# Altium footprint library 4.32-CZ-5.08mm插座.PcbLib: 24 footprints (part 2 of 2)
Each footprint in its own frame and in the unit in brackets; x right, y up, seen from the top. Pads: shape width x height; smd on the part's side, far side on the other; paste and mask are expansions set on the pad; w line width, h text height; cw(c..) or ccw(c..) is an arc to the next point about the centre after c.
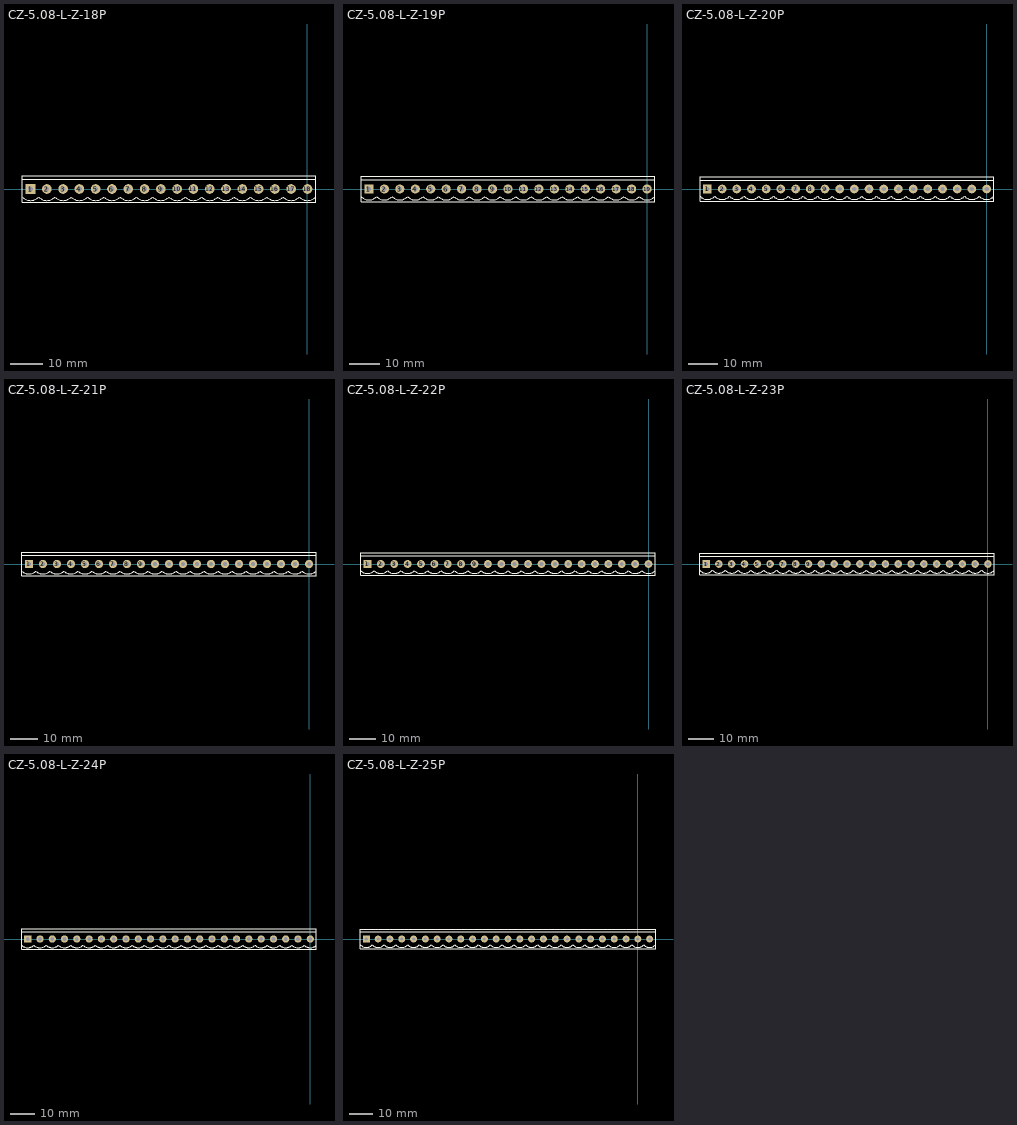
[diagram p1: the footprints below, top view; thin cyan lines are the x and y axes]

## CZ-5.08-L-Z-18P [mm] "[ PCBѧϰȺ514746572 ]"
pads (18):
  rect 3x3 hole 1.5: 1(-86.36,0)
  round 3 hole 1.5: 2(-81.28,0) 3(-76.2,0) 4(-71.12,0) 5(-66.04,0) 6(-60.96,0) 7(-55.88,0) 8(-50.8,0) 9(-45.72,0) 10(-40.64,0) 11(-35.56,0) 12(-30.48,0) 13(-25.4,0) 14(-20.32,0) 15(-15.24,0) 16(-10.16,0) 17(-5.08,0) 18(0,0)
Top Overlay:
  lines w0.203: -88.9,-4.2 2.54,-4.2 ; -88.9,4.2 2.54,4.2
  lines w0.254: -88.9,-4.2 -88.9,4.2 ; -88.9,-2.54 ccw(c-86.36,0) -83.82,-2.54 ccw(c-81.28,0) -78.74,-2.54 ccw(c-76.2,0) -73.66,-2.54 ccw(c-71.12,0) -68.58,-2.54 ccw(c-66.04,0) -63.5,-2.54 ccw(c-60.96,0) -58.42,-2.54 ccw(c-55.88,0) -53.34,-2.54 ccw(c-50.8,0) -48.26,-2.54 ccw(c-45.72,0) -43.18,-2.54 ccw(c-40.64,0) -38.1,-2.54 ccw(c-35.56,0) -33.02,-2.54 ccw(c-30.48,0) -27.94,-2.54 ccw(c-25.4,0) -22.86,-2.54 ccw(c-20.32,0) -17.78,-2.54 ccw(c-15.24,0) -12.7,-2.54 ccw(c-10.16,0) -7.62,-2.54 ccw(c-5.08,0) -2.54,-2.54 ccw(c0,0) 2.54,-2.54 ; -88.9,3.1 2.54,3.1 ; 2.54,-4.2 2.54,4.2
3D body "5.08立式直插-18P.STEP": height 3.53, standoff -10.67, extent -88.94,-4.2 2.5,4.2

## CZ-5.08-L-Z-19P [mm] "[ PCBѧϰȺ514746572 ]"
pads (19):
  rect 3x3 hole 1.5: 1(-91.44,0)
  round 3 hole 1.5: 2(-86.36,0) 3(-81.28,0) 4(-76.2,0) 5(-71.12,0) 6(-66.04,0) 7(-60.96,0) 8(-55.88,0) 9(-50.8,0) 10(-45.72,0) 11(-40.64,0) 12(-35.56,0) 13(-30.48,0) 14(-25.4,0) 15(-20.32,0) 16(-15.24,0) 17(-10.16,0) 18(-5.08,0) 19(0,0)
Top Overlay:
  lines w0.203: -93.98,-4.2 2.54,-4.2 ; -93.98,4.2 2.54,4.2
  lines w0.254: -93.98,-4.2 -93.98,4.2 ; -93.98,-2.54 ccw(c-91.44,0) -88.9,-2.54 ccw(c-86.36,0) -83.82,-2.54 ccw(c-81.28,0) -78.74,-2.54 ccw(c-76.2,0) -73.66,-2.54 ccw(c-71.12,0) -68.58,-2.54 ccw(c-66.04,0) -63.5,-2.54 ccw(c-60.96,0) -58.42,-2.54 ccw(c-55.88,0) -53.34,-2.54 ccw(c-50.8,0) -48.26,-2.54 ccw(c-45.72,0) -43.18,-2.54 ccw(c-40.64,0) -38.1,-2.54 ccw(c-35.56,0) -33.02,-2.54 ccw(c-30.48,0) -27.94,-2.54 ccw(c-25.4,0) -22.86,-2.54 ccw(c-20.32,0) -17.78,-2.54 ccw(c-15.24,0) -12.7,-2.54 ccw(c-10.16,0) -7.62,-2.54 ccw(c-5.08,0) -2.54,-2.54 ccw(c0,0) 2.54,-2.54 ; -93.98,3.1 2.54,3.1 ; 2.54,-4.2 2.54,4.2
3D body "5.08立式直插-19P.STEP": height 3.53, standoff -10.67, extent -94.01,-4.25 2.51,4.15

## CZ-5.08-L-Z-20P [mm] "[ PCBѧϰȺ514746572 ]"
pads (20):
  rect 3x3 hole 1.5: 1(-96.52,0)
  round 3 hole 1.5: 2(-91.44,0) 3(-86.36,0) 4(-81.28,0) 5(-76.2,0) 6(-71.12,0) 7(-66.04,0) 8(-60.96,0) 9(-55.88,0) 10(-50.8,0) 11(-45.72,0) 12(-40.64,0) 13(-35.56,0) 14(-30.48,0) 15(-25.4,0) 16(-20.32,0) 17(-15.24,0) 18(-10.16,0) 19(-5.08,0) 20(0,0)
Top Overlay:
  lines w0.203: -99.06,-4.2 2.54,-4.2 ; -99.06,4.2 2.54,4.2
  lines w0.254: -99.06,-4.2 -99.06,4.2 ; -99.06,-2.54 ccw(c-96.52,0) -93.98,-2.54 ccw(c-91.44,0) -88.9,-2.54 ccw(c-86.36,0) -83.82,-2.54 ccw(c-81.28,0) -78.74,-2.54 ccw(c-76.2,0) -73.66,-2.54 ccw(c-71.12,0) -68.58,-2.54 ccw(c-66.04,0) -63.5,-2.54 ccw(c-60.96,0) -58.42,-2.54 ccw(c-55.88,0) -53.34,-2.54 ccw(c-50.8,0) -48.26,-2.54 ccw(c-45.72,0) -43.18,-2.54 ccw(c-40.64,0) -38.1,-2.54 ccw(c-35.56,0) -33.02,-2.54 ccw(c-30.48,0) -27.94,-2.54 ccw(c-25.4,0) -22.86,-2.54 ccw(c-20.32,0) -17.78,-2.54 ccw(c-15.24,0) -12.7,-2.54 ccw(c-10.16,0) -7.62,-2.54 ccw(c-5.08,0) -2.54,-2.54 ccw(c0,0) 2.54,-2.54 ; -99.06,3.1 2.54,3.1 ; 2.54,-4.2 2.54,4.2
3D body "5.08立式直插-20P.STEP": height 3.53, standoff -10.67, extent -99.1,-4.189 2.5,4.21

## CZ-5.08-L-Z-21P [mm] "[ PCBѧϰȺ514746572 ]"
pads (21):
  rect 3x3 hole 1.5: 1(-101.6,0)
  round 3 hole 1.5: 2(-96.52,0) 3(-91.44,0) 4(-86.36,0) 5(-81.28,0) 6(-76.2,0) 7(-71.12,0) 8(-66.04,0) 9(-60.96,0) 10(-55.88,0) 11(-50.8,0) 12(-45.72,0) 13(-40.64,0) 14(-35.56,0) 15(-30.48,0) 16(-25.4,0) 17(-20.32,0) 18(-15.24,0) 19(-10.16,0) 20(-5.08,0) 21(0,0)
Top Overlay:
  lines w0.203: -104.14,-4.2 2.54,-4.2 ; -104.14,4.2 2.54,4.2
  lines w0.254: -104.14,-4.2 -104.14,4.2 ; -104.14,-2.54 ccw(c-101.6,0) -99.06,-2.54 ccw(c-96.52,0) -93.98,-2.54 ccw(c-91.44,0) -88.9,-2.54 ccw(c-86.36,0) -83.82,-2.54 ccw(c-81.28,0) -78.74,-2.54 ccw(c-76.2,0) -73.66,-2.54 ccw(c-71.12,0) -68.58,-2.54 ccw(c-66.04,0) -63.5,-2.54 ccw(c-60.96,0) -58.42,-2.54 ccw(c-55.88,0) -53.34,-2.54 ccw(c-50.8,0) -48.26,-2.54 ccw(c-45.72,0) -43.18,-2.54 ccw(c-40.64,0) -38.1,-2.54 ccw(c-35.56,0) -33.02,-2.54 ccw(c-30.48,0) -27.94,-2.54 ccw(c-25.4,0) -22.86,-2.54 ccw(c-20.32,0) -17.78,-2.54 ccw(c-15.24,0) -12.7,-2.54 ccw(c-10.16,0) -7.62,-2.54 ccw(c-5.08,0) -2.54,-2.54 ccw(c0,0) 2.54,-2.54 ; -104.14,3.1 2.54,3.1 ; 2.54,-4.2 2.54,4.2
3D body "5.08立式直插-21P.STEP": height 3.53, standoff -10.67, extent -104.18,-4.189 2.5,4.211

## CZ-5.08-L-Z-22P [mm] "[ PCBѧϰȺ514746572 ]"
pads (22):
  rect 3x3 hole 1.5: 1(-106.68,0)
  round 3 hole 1.5: 2(-101.6,0) 3(-96.52,0) 4(-91.44,0) 5(-86.36,0) 6(-81.28,0) 7(-76.2,0) 8(-71.12,0) 9(-66.04,0) 10(-60.96,0) 11(-55.88,0) 12(-50.8,0) 13(-45.72,0) 14(-40.64,0) 15(-35.56,0) 16(-30.48,0) 17(-25.4,0) 18(-20.32,0) 19(-15.24,0) 20(-10.16,0) 21(-5.08,0) 22(0,0)
Top Overlay:
  lines w0.203: -109.22,-4.2 2.54,-4.2 ; -109.22,4.2 2.54,4.2
  lines w0.254: -109.22,-4.2 -109.22,4.2 ; -109.22,-2.54 ccw(c-106.68,0) -104.14,-2.54 ccw(c-101.6,0) -99.06,-2.54 ccw(c-96.52,0) -93.98,-2.54 ccw(c-91.44,0) -88.9,-2.54 ccw(c-86.36,0) -83.82,-2.54 ccw(c-81.28,0) -78.74,-2.54 ccw(c-76.2,0) -73.66,-2.54 ccw(c-71.12,0) -68.58,-2.54 ccw(c-66.04,0) -63.5,-2.54 ccw(c-60.96,0) -58.42,-2.54 ccw(c-55.88,0) -53.34,-2.54 ccw(c-50.8,0) -48.26,-2.54 ccw(c-45.72,0) -43.18,-2.54 ccw(c-40.64,0) -38.1,-2.54 ccw(c-35.56,0) -33.02,-2.54 ccw(c-30.48,0) -27.94,-2.54 ccw(c-25.4,0) -22.86,-2.54 ccw(c-20.32,0) -17.78,-2.54 ccw(c-15.24,0) -12.7,-2.54 ccw(c-10.16,0) -7.62,-2.54 ccw(c-5.08,0) -2.54,-2.54 ccw(c0,0) 2.54,-2.54 ; -109.22,3.1 2.54,3.1 ; 2.54,-4.2 2.54,4.2
3D body "5.08立式直插-22P.STEP": height 3.53, standoff -10.67, extent -109.13,-4.25 2.63,4.15

## CZ-5.08-L-Z-23P [mm] "[ PCBѧϰȺ514746572 ]"
pads (23):
  rect 3x3 hole 1.5: 1(-111.76,0)
  round 3 hole 1.5: 2(-106.68,0) 3(-101.6,0) 4(-96.52,0) 5(-91.44,0) 6(-86.36,0) 7(-81.28,0) 8(-76.2,0) 9(-71.12,0) 10(-66.04,0) 11(-60.96,0) 12(-55.88,0) 13(-50.8,0) 14(-45.72,0) 15(-40.64,0) 16(-35.56,0) 17(-30.48,0) 18(-25.4,0) 19(-20.32,0) 20(-15.24,0) 21(-10.16,0) 22(-5.08,0) 23(0,0)
Top Overlay:
  lines w0.203: -114.3,-4.2 2.54,-4.2 ; -114.3,4.2 2.54,4.2
  lines w0.254: -114.3,-4.2 -114.3,4.2 ; -114.3,-2.54 ccw(c-111.76,0) -109.22,-2.54 ccw(c-106.68,0) -104.14,-2.54 ccw(c-101.6,0) -99.06,-2.54 ccw(c-96.52,0) -93.98,-2.54 ccw(c-91.44,0) -88.9,-2.54 ccw(c-86.36,0) -83.82,-2.54 ccw(c-81.28,0) -78.74,-2.54 ccw(c-76.2,0) -73.66,-2.54 ccw(c-71.12,0) -68.58,-2.54 ccw(c-66.04,0) -63.5,-2.54 ccw(c-60.96,0) -58.42,-2.54 ccw(c-55.88,0) -53.34,-2.54 ccw(c-50.8,0) -48.26,-2.54 ccw(c-45.72,0) -43.18,-2.54 ccw(c-40.64,0) -38.1,-2.54 ccw(c-35.56,0) -33.02,-2.54 ccw(c-30.48,0) -27.94,-2.54 ccw(c-25.4,0) -22.86,-2.54 ccw(c-20.32,0) -17.78,-2.54 ccw(c-15.24,0) -12.7,-2.54 ccw(c-10.16,0) -7.62,-2.54 ccw(c-5.08,0) -2.54,-2.54 ccw(c0,0) 2.54,-2.54 ; -114.3,3.1 2.54,3.1 ; 2.54,-4.2 2.54,4.2
3D body "5.08立式直插-23P.STEP": height 3.53, standoff -10.67, extent -114.25,-4.15 2.59,4.25

## CZ-5.08-L-Z-24P [mm] "[ PCBѧϰȺ514746572 ]"
pads (24):
  rect 3x3 hole 1.5: 1(-116.84,0)
  round 3 hole 1.5: 2(-111.76,0) 3(-106.68,0) 4(-101.6,0) 5(-96.52,0) 6(-91.44,0) 7(-86.36,0) 8(-81.28,0) 9(-76.2,0) 10(-71.12,0) 11(-66.04,0) 12(-60.96,0) 13(-55.88,0) 14(-50.8,0) 15(-45.72,0) 16(-40.64,0) 17(-35.56,0) 18(-30.48,0) 19(-25.4,0) 20(-20.32,0) 21(-15.24,0) 22(-10.16,0) 23(-5.08,0) 24(0,0)
Top Overlay:
  lines w0.203: -119.38,-4.2 2.54,-4.2 ; -119.38,4.2 2.54,4.2
  lines w0.254: -119.38,-4.2 -119.38,4.2 ; -119.38,-2.54 ccw(c-116.84,0) -114.3,-2.54 ccw(c-111.76,0) -109.22,-2.54 ccw(c-106.68,0) -104.14,-2.54 ccw(c-101.6,0) -99.06,-2.54 ccw(c-96.52,0) -93.98,-2.54 ccw(c-91.44,0) -88.9,-2.54 ccw(c-86.36,0) -83.82,-2.54 ccw(c-81.28,0) -78.74,-2.54 ccw(c-76.2,0) -73.66,-2.54 ccw(c-71.12,0) -68.58,-2.54 ccw(c-66.04,0) -63.5,-2.54 ccw(c-60.96,0) -58.42,-2.54 ccw(c-55.88,0) -53.34,-2.54 ccw(c-50.8,0) -48.26,-2.54 ccw(c-45.72,0) -43.18,-2.54 ccw(c-40.64,0) -38.1,-2.54 ccw(c-35.56,0) -33.02,-2.54 ccw(c-30.48,0) -27.94,-2.54 ccw(c-25.4,0) -22.86,-2.54 ccw(c-20.32,0) -17.78,-2.54 ccw(c-15.24,0) -12.7,-2.54 ccw(c-10.16,0) -7.62,-2.54 ccw(c-5.08,0) -2.54,-2.54 ccw(c0,0) 2.54,-2.54 ; -119.38,3.1 2.54,3.1 ; 2.54,-4.2 2.54,4.2
3D body "5.08立式直插-24P.STEP": height 10.27, standoff -3.93, extent -119.42,-4.2 2.5,4.2

## CZ-5.08-L-Z-25P [mm] "[ PCBѧϰȺ514746572 ]"
pads (25):
  rect 3x3 hole 1.5: 1(-116.84,0)
  round 3 hole 1.5: 2(-111.76,0) 3(-106.68,0) 4(-101.6,0) 5(-96.52,0) 6(-91.44,0) 7(-86.36,0) 8(-81.28,0) 9(-76.2,0) 10(-71.12,0) 11(-66.04,0) 12(-60.96,0) 13(-55.88,0) 14(-50.8,0) 15(-45.72,0) 16(-40.64,0) 17(-35.56,0) 18(-30.48,0) 19(-25.4,0) 20(-20.32,0) 21(-15.24,0) 22(-10.16,0) 23(-5.08,0) 24(0,0) 25(5.08,0)
Top Overlay:
  lines w0.203: -119.38,-4.2 7.62,-4.2 ; -119.38,4.2 7.62,4.2
  lines w0.254: -119.38,-4.2 -119.38,4.2 ; -119.38,-2.54 ccw(c-116.84,0) -114.3,-2.54 ccw(c-111.76,0) -109.22,-2.54 ccw(c-106.68,0) -104.14,-2.54 ccw(c-101.6,0) -99.06,-2.54 ccw(c-96.52,0) -93.98,-2.54 ccw(c-91.44,0) -88.9,-2.54 ccw(c-86.36,0) -83.82,-2.54 ccw(c-81.28,0) -78.74,-2.54 ccw(c-76.2,0) -73.66,-2.54 ccw(c-71.12,0) -68.58,-2.54 ccw(c-66.04,0) -63.5,-2.54 ccw(c-60.96,0) -58.42,-2.54 ccw(c-55.88,0) -53.34,-2.54 ccw(c-50.8,0) -48.26,-2.54 ccw(c-45.72,0) -43.18,-2.54 ccw(c-40.64,0) -38.1,-2.54 ccw(c-35.56,0) -33.02,-2.54 ccw(c-30.48,0) -27.94,-2.54 ccw(c-25.4,0) -22.86,-2.54 ccw(c-20.32,0) -17.78,-2.54 ccw(c-15.24,0) -12.7,-2.54 ccw(c-10.16,0) -7.62,-2.54 ccw(c-5.08,0) -2.54,-2.54 ; -119.38,3.1 7.62,3.1 ; 7.62,-4.2 7.62,4.2 ; 7.62,-2.54 cw(c5.08,0) 2.54,-2.54 ; -2.54,-2.54 ccw(c0,0) 2.54,-2.54 ; -2.54,-2.54 ccw(c0,0) 2.54,-2.54
3D body "5.08立式直插-5P.STEP": height 10.27, standoff -3.93, extent -17.87,-4.15 7.53,4.25
3D body "5.08立式直插-10.STEP": height 3.53, standoff -10.67, extent -119.47,-4.15 -68.67,4.25
3D body "5.08立式直插-10.STEP": height 3.53, standoff -10.67, extent -68.67,-4.15 -17.87,4.25